# Altium footprint library TMV0505S.PcbLib: 1 footprints
Each footprint in its own frame and in the unit in brackets; x right, y up, seen from the top. Pads: shape width x height; smd on the part's side, far side on the other; paste and mask are expansions set on the pad; w line width, h text height; cw(c..) or ccw(c..) is an arc to the next point about the centre after c.
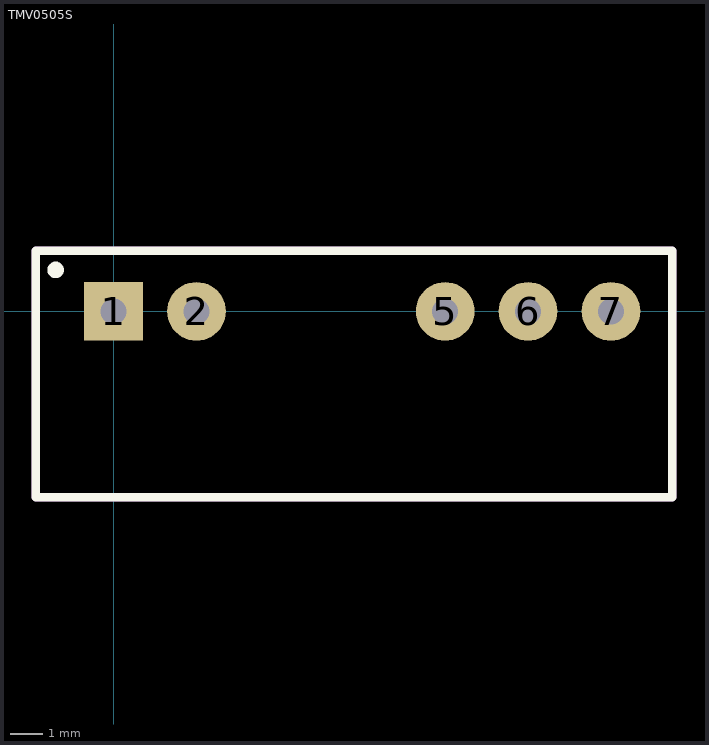
[diagram p0: the footprint, top view; thin cyan lines are the x and y axes]

## TMV0505S [mm]
pads (5):
  rect 1.8x1.8 hole 0.8: 1(0,0)
  round 1.8 hole 0.8: 2(2.54,0) 5(10.16,0) 6(12.7,0) 7(15.24,0)
Top Overlay:
  circle w0.254: c-1.778,1.27 r0.127
  lines w0.254: -2.384,1.856 -2.384,-5.694 17.116,-5.694 17.116,1.856 ; -2.384,1.856 -2.384,1.856 ; -2.384,1.856 17.116,1.856 ; 17.116,1.856 17.116,1.856
TopAssy:
  lines w0.254: -2.384,1.856 -2.384,-5.694 17.116,-5.694 17.116,1.856 ; -2.384,1.856 -2.384,1.856 ; -2.384,1.856 17.116,1.856 ; 17.116,1.856 17.116,1.856
3D body "User Library-TMV0505EN.STEP": height 10.2, standoff -3.2, extent -2.384,-5.694 17.116,1.856